# Altium footprint library Varistor.PcbLib: 102 footprints (part 1 of 7)
Each footprint in its own frame and in the unit in brackets; x right, y up, seen from the top. Pads: shape width x height; smd on the part's side, far side on the other; paste and mask are expansions set on the pad; w line width, h text height; cw(c..) or ccw(c..) is an arc to the next point about the centre after c.
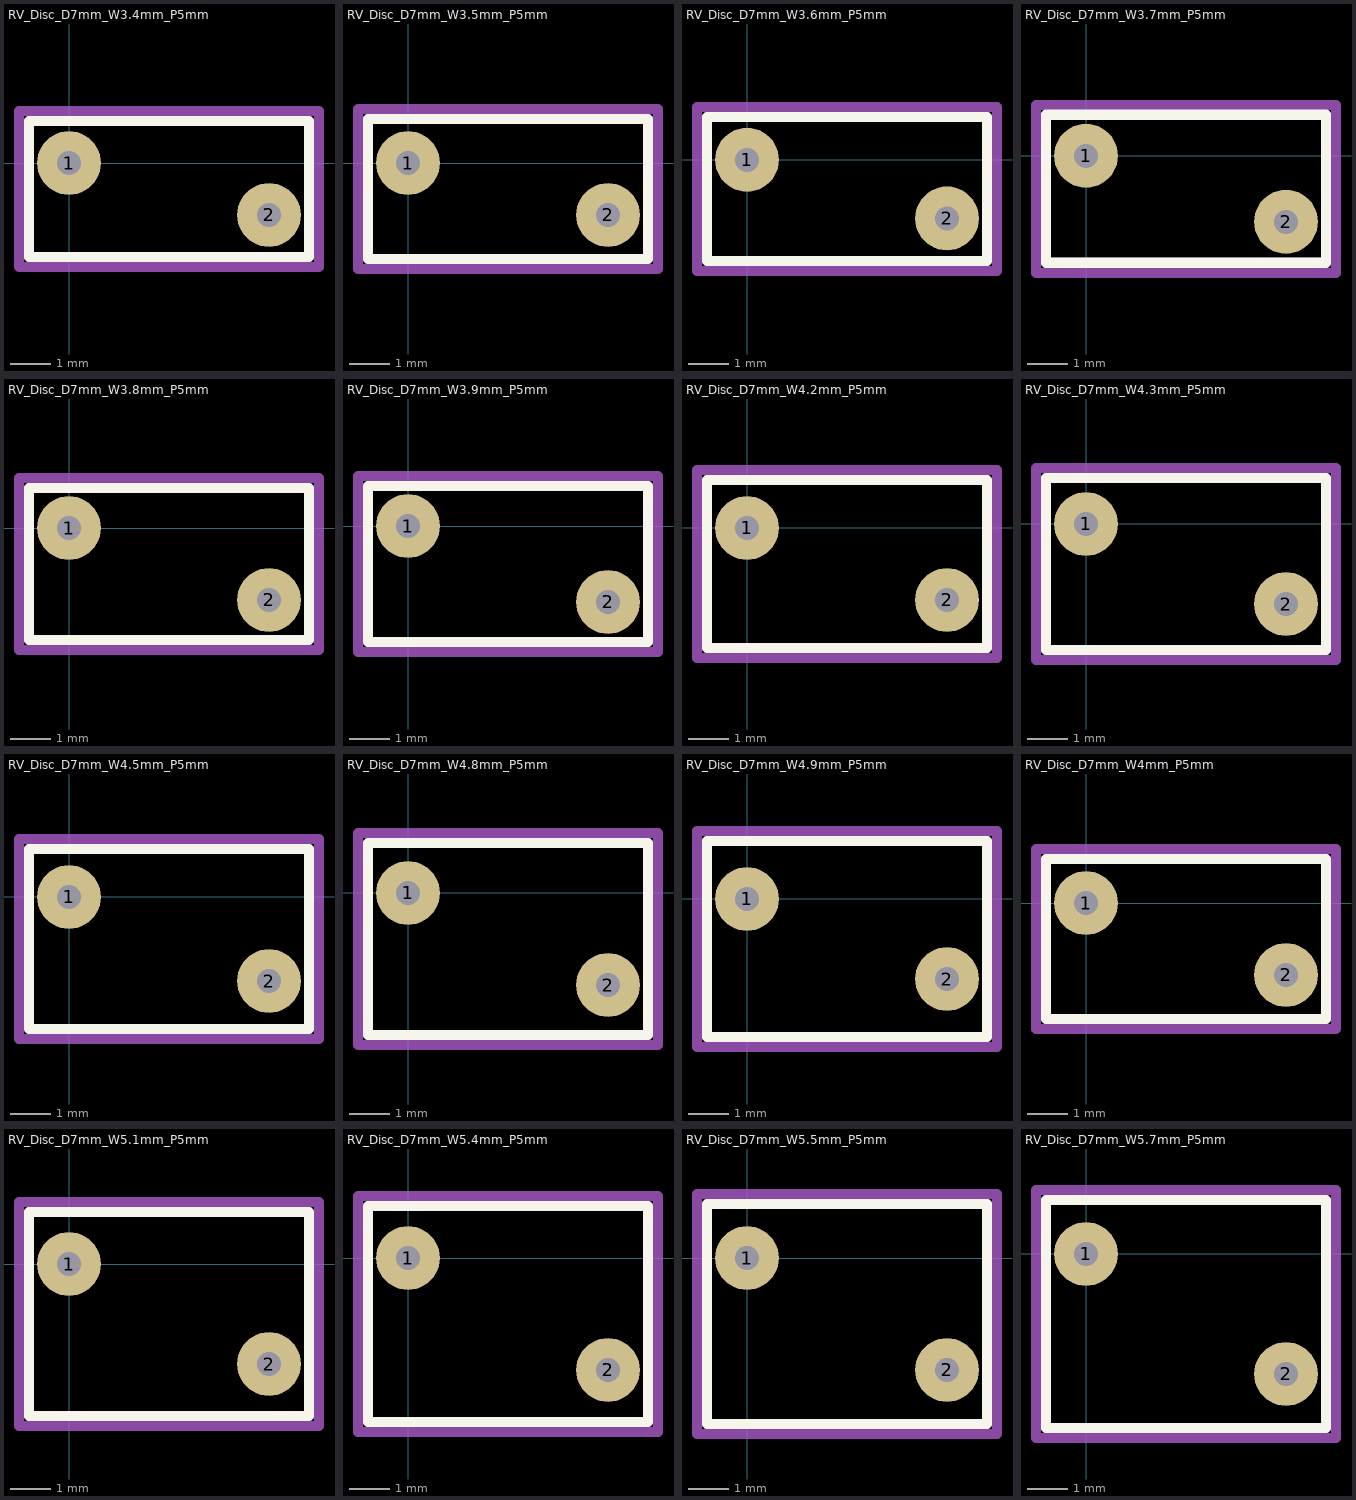
[diagram p0: the footprints below, top view; thin cyan lines are the x and y axes]

## RV_Disc_D7mm_W3.4mm_P5mm [mm]
pads (2):
  round 1.6 hole 0.6: 1(0,0) 2(5,-1.3)
F.SilkS:
  lines w0.254: -1,-2.35 6,-2.35 6,1.05 -1,1.05 -1,-2.35
F.Fab:
  lines w0.254: -1,-2.35 6,-2.35 6,1.05 -1,1.05 -1,-2.35
  text "'.Designator'" at -1.547,-1.49 h1
F.CrtYd:
  lines w0.254: -1.25,-2.6 6.25,-2.6 6.25,1.3 -1.25,1.3 -1.25,-2.6
3D body "RV_Disc_D7mm_W3.4mm_P5mm.step": height 7.03, standoff -3, extent -1,-2.35 6,1.05

## RV_Disc_D7mm_W3.5mm_P5mm [mm]
pads (2):
  round 1.6 hole 0.6: 1(0,0) 2(5,-1.3)
F.SilkS:
  lines w0.254: -1,-2.4 -1,1.1 6,1.1 6,-2.4 -1,-2.4
F.Fab:
  lines w0.254: -1,-2.4 -1,1.1 6,1.1 6,-2.4 -1,-2.4
  text "'.Designator'" at -1.547,-1.49 h1
F.CrtYd:
  lines w0.254: -1.25,-2.65 -1.25,1.35 6.25,1.35 6.25,-2.65 -1.25,-2.65
3D body "RV_Disc_D7mm_W3.5mm_P5mm.step": height 7.03, standoff -3, extent -1,-2.4 6,1.1

## RV_Disc_D7mm_W3.6mm_P5mm [mm]
pads (2):
  round 1.6 hole 0.6: 1(0,0) 2(5,-1.467)
F.SilkS:
  lines w0.254: -1,-2.533 -1,1.067 6,1.067 6,-2.533 -1,-2.533
F.Fab:
  lines w0.254: -1,-2.533 -1,1.067 6,1.067 6,-2.533 -1,-2.533
  text "'.Designator'" at -1.547,-1.573 h1
F.CrtYd:
  lines w0.254: -1.25,-2.78 -1.25,1.32 6.25,1.32 6.25,-2.78 -1.25,-2.78
3D body "RV_Disc_D7mm_W3.6mm_P5mm.step": height 7.03, standoff -3, extent -1,-2.533 6,1.067

## RV_Disc_D7mm_W3.7mm_P5mm [mm]
pads (2):
  round 1.6 hole 0.6: 1(0,0) 2(5,-1.65)
F.SilkS:
  lines w0.254: -1,-2.675 -1,1.025 6,1.025 6,-2.675 -1,-2.675
F.Fab:
  lines w0.254: -1,-2.675 -1,1.025 6,1.025 6,-2.675 -1,-2.675
  text "'.Designator'" at -1.547,-1.665 h1
F.CrtYd:
  lines w0.254: -1.25,-2.93 -1.25,1.27 6.25,1.27 6.25,-2.93 -1.25,-2.93
3D body "RV_Disc_D7mm_W3.7mm_P5mm.step": height 7.03, standoff -3, extent -1,-2.675 6,1.025

## RV_Disc_D7mm_W3.8mm_P5mm [mm]
pads (2):
  round 1.6 hole 0.6: 1(0,0) 2(5,-1.8)
F.SilkS:
  lines w0.254: -1,-2.8 -1,1 6,1 6,-2.8 -1,-2.8
F.Fab:
  lines w0.254: -1,-2.8 -1,1 6,1 6,-2.8 -1,-2.8
  text "'.Designator'" at -1.547,-1.74 h1
F.CrtYd:
  lines w0.254: -1.25,-3.05 -1.25,1.25 6.25,1.25 6.25,-3.05 -1.25,-3.05
3D body "RV_Disc_D7mm_W3.8mm_P5mm.step": height 7.03, standoff -3, extent -1,-2.8 6,1

## RV_Disc_D7mm_W3.9mm_P5mm [mm]
pads (2):
  round 1.6 hole 0.6: 1(0,0) 2(5,-1.9)
F.SilkS:
  lines w0.254: -1,-2.9 -1,1 6,1 6,-2.9 -1,-2.9
F.Fab:
  lines w0.254: -1,-2.9 -1,1 6,1 6,-2.9 -1,-2.9
  text "'.Designator'" at -1.547,-1.79 h1
F.CrtYd:
  lines w0.254: -1.25,-3.15 -1.25,1.25 6.25,1.25 6.25,-3.15 -1.25,-3.15
3D body "RV_Disc_D7mm_W3.9mm_P5mm.step": height 7.03, standoff -3, extent -1,-2.9 6,1

## RV_Disc_D7mm_W4.2mm_P5mm [mm]
pads (2):
  round 1.6 hole 0.6: 1(0,0) 2(5,-1.8)
F.SilkS:
  lines w0.254: -1,-3 -1,1.2 6,1.2 6,-3 -1,-3
F.Fab:
  lines w0.254: -1,-3 -1,1.2 6,1.2 6,-3 -1,-3
  text "'.Designator'" at -1.547,-1.74 h1
F.CrtYd:
  lines w0.254: -1.25,-3.25 -1.25,1.45 6.25,1.45 6.25,-3.25 -1.25,-3.25
3D body "RV_Disc_D7mm_W4.2mm_P5mm.step": height 7.03, standoff -3, extent -1,-3 6,1.2

## RV_Disc_D7mm_W4.3mm_P5mm [mm]
pads (2):
  round 1.6 hole 0.6: 1(0,0) 2(5,-2)
F.SilkS:
  lines w0.254: -1,-3.15 -1,1.15 6,1.15 6,-3.15 -1,-3.15
F.Fab:
  lines w0.254: -1,-3.15 -1,1.15 6,1.15 6,-3.15 -1,-3.15
  text "'.Designator'" at -1.547,-1.84 h1
F.CrtYd:
  lines w0.254: -1.25,-3.4 -1.25,1.4 6.25,1.4 6.25,-3.4 -1.25,-3.4
3D body "RV_Disc_D7mm_W4.3mm_P5mm.step": height 7.03, standoff -3, extent -1,-3.15 6,1.15

## RV_Disc_D7mm_W4.5mm_P5mm [mm]
pads (2):
  round 1.6 hole 0.6: 1(0,0) 2(5,-2.1)
F.SilkS:
  lines w0.254: -1,-3.3 -1,1.2 6,1.2 6,-3.3 -1,-3.3
F.Fab:
  lines w0.254: -1,-3.3 -1,1.2 6,1.2 6,-3.3 -1,-3.3
  text "'.Designator'" at -1.547,-1.89 h1
F.CrtYd:
  lines w0.254: -1.25,-3.55 -1.25,1.45 6.25,1.45 6.25,-3.55 -1.25,-3.55
3D body "RV_Disc_D7mm_W4.5mm_P5mm.step": height 7.03, standoff -3, extent -1,-3.3 6,1.2

## RV_Disc_D7mm_W4.8mm_P5mm [mm]
pads (2):
  round 1.6 hole 0.6: 1(0,0) 2(5,-2.3)
F.SilkS:
  lines w0.254: -1,-3.55 -1,1.25 6,1.25 6,-3.55 -1,-3.55
F.Fab:
  lines w0.254: -1,-3.55 -1,1.25 6,1.25 6,-3.55 -1,-3.55
  text "'.Designator'" at -1.547,-1.99 h1
F.CrtYd:
  lines w0.254: -1.25,-3.8 -1.25,1.5 6.25,1.5 6.25,-3.8 -1.25,-3.8
3D body "RV_Disc_D7mm_W4.8mm_P5mm.step": height 7.03, standoff -3, extent -1,-3.55 6,1.25

## RV_Disc_D7mm_W4.9mm_P5mm [mm]
pads (2):
  round 1.6 hole 0.6: 1(0,0) 2(5,-2)
F.SilkS:
  lines w0.254: -1,-3.45 -1,1.45 6,1.45 6,-3.45 -1,-3.45
F.Fab:
  lines w0.254: 6,-3.45 -1,-3.45 -1,1.45 6,1.45 6,-3.44
  text "'.Designator'" at -1.547,-1.99 h1
F.CrtYd:
  lines w0.254: -1.25,-3.7 -1.25,1.7 6.25,1.7 6.25,-3.7 -1.25,-3.7
3D body "RV_Disc_D7mm_W4.9mm_P5mm.step": height 7.03, standoff -3, extent -1,-3.45 6,1.45

## RV_Disc_D7mm_W4mm_P5mm [mm]
pads (2):
  round 1.6 hole 0.6: 1(0,0) 2(5,-1.8)
F.SilkS:
  lines w0.254: -1,-2.9 -1,1.1 6,1.1 6,-2.9 -1,-2.9
F.Fab:
  lines w0.254: -1,-2.9 -1,1.1 6,1.1 6,-2.9 -1,-2.9
  text "'.Designator'" at -1.547,-1.74 h1
F.CrtYd:
  lines w0.254: -1.25,-3.15 -1.25,1.35 6.25,1.35 6.25,-3.15 -1.25,-3.15
3D body "RV_Disc_D7mm_W4mm_P5mm.step": height 7.03, standoff -3, extent -1,-2.9 6,1.1

## RV_Disc_D7mm_W5.1mm_P5mm [mm]
pads (2):
  round 1.6 hole 0.6: 1(0,0) 2(5,-2.5)
F.SilkS:
  lines w0.254: -1,-3.8 -1,1.3 6,1.3 6,-3.8 -1,-3.8
F.Fab:
  lines w0.254: -1,-3.8 -1,1.3 6,1.3 6,-3.8 -1,-3.8
  text "'.Designator'" at -1.547,-2.09 h1
F.CrtYd:
  lines w0.254: -1.25,-4.05 -1.25,1.55 6.25,1.55 6.25,-4.05 -1.25,-4.05
3D body "RV_Disc_D7mm_W5.1mm_P5mm.step": height 7.03, standoff -3, extent -1,-3.8 6,1.3

## RV_Disc_D7mm_W5.4mm_P5mm [mm]
pads (2):
  round 1.6 hole 0.6: 1(0,0) 2(5,-2.8)
F.SilkS:
  lines w0.254: -1,-4.1 -1,1.3 6,1.3 6,-4.1 -1,-4.1
F.Fab:
  lines w0.254: -1,-4.1 -1,1.3 6,1.3 6,-4.1 -1,-4.1
  text "'.Designator'" at -1.547,-2.24 h1
F.CrtYd:
  lines w0.254: -1.25,-4.35 -1.25,1.55 6.25,1.55 6.25,-4.35 -1.25,-4.35
3D body "RV_Disc_D7mm_W5.4mm_P5mm.step": height 7.03, standoff -3, extent -1,-4.1 6,1.3

## RV_Disc_D7mm_W5.5mm_P5mm [mm]
pads (2):
  round 1.6 hole 0.6: 1(0,0) 2(5,-2.8)
F.SilkS:
  lines w0.254: -1,-4.15 -1,1.35 6,1.35 6,-4.15 -1,-4.15
F.Fab:
  lines w0.254: -1,-4.15 -1,1.35 6,1.35 6,-4.15 -1,-4.15
  text "'.Designator'" at -1.547,-2.24 h1
F.CrtYd:
  lines w0.254: -1.25,-4.4 -1.25,1.6 6.25,1.6 6.25,-4.4 -1.25,-4.4
3D body "RV_Disc_D7mm_W5.5mm_P5mm.step": height 7.03, standoff -3, extent -1,-4.15 6,1.35

## RV_Disc_D7mm_W5.7mm_P5mm [mm]
pads (2):
  round 1.6 hole 0.6: 1(0,0) 2(5,-3)
F.SilkS:
  lines w0.254: -1,-4.35 -1,1.35 6,1.35 6,-4.35 -1,-4.35
F.Fab:
  lines w0.254: -1,-4.35 -1,1.35 6,1.35 6,-4.35 -1,-4.35
  text "'.Designator'" at -1.547,-2.34 h1
F.CrtYd:
  lines w0.254: -1.25,-4.6 -1.25,1.6 6.25,1.6 6.25,-4.6 -1.25,-4.6
3D body "RV_Disc_D7mm_W5.7mm_P5mm.step": height 7.03, standoff -3, extent -1,-4.35 6,1.35